# Altium footprint library Transformers.PcbLib: 2 footprints
Each footprint in its own frame and in the unit in brackets; x right, y up, seen from the top. Pads: shape width x height; smd on the part's side, far side on the other; paste and mask are expansions set on the pad; w line width, h text height; cw(c..) or ccw(c..) is an arc to the next point about the centre after c.
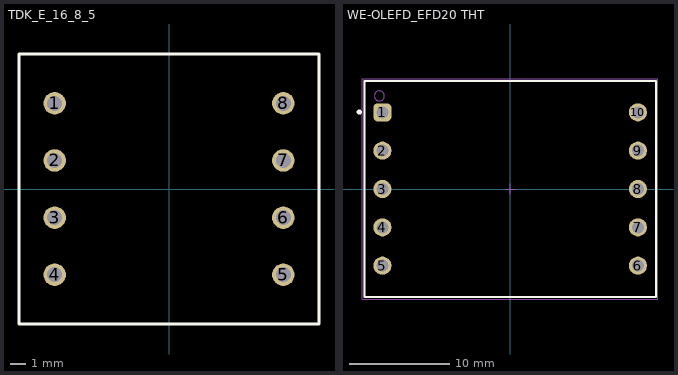
[diagram p0: the footprints below, top view; thin cyan lines are the x and y axes]

## TDK_E_16_8_5 [mm]
pads (8):
  round 1.5 hole 1: 1(-7.62,5.715) 2(-7.62,1.905) 3(-7.62,-1.913) 4(-7.62,-5.715) 5(7.62,-5.715) 6(7.62,-1.913) 7(7.62,1.905) 8(7.62,5.715)
Top Overlay:
  lines w0.2: -10,-9 -10,9 10,9 10,-9 -10,-9
3D body "TRAFO_E16.STEP": height 14.11, standoff -3.19, extent -9.946,-8.895 10.054,8.905

## WE-OLEFD_EFD20 THT [mm] "Offline Flyback Transformer, THT, body 29.00 x 21.50 mm"
height 12
pads (10):
  rrect50% 1.8x1.8 hole 1.2: 1(-12.7,7.62)
  round 1.8 hole 1.2: 2(-12.7,3.81) 3(-12.7,0) 4(-12.7,-3.81) 5(-12.7,-7.62) 6(12.7,-7.62) 7(12.7,-3.81) 8(12.7,0) 9(12.7,3.81) 10(12.7,7.62)
Top Overlay:
  circle w0.25: c-15,7.65 r0.125
  lines w0.2: -14.5,-10.75 14.5,-10.75 14.5,10.75 -14.5,10.75 -14.5,-10.75
Top Designator:
  text ".Designator" at -7.498,-0.5 h1.5
Top Component Outline:
  circle w0.1: c-13,9.25 r0.5
  lines w0.1: -14.5,-10.75 -14.5,10.75 14.5,10.75 14.5,-10.75 -14.5,-10.75
Top Courtyard:
  lines w0.05: -0.5,0 0.5,0 ; 0,-0.5 0,0.5 ; -14.7,-10.95 -14.7,10.95 14.7,10.95 14.7,-10.95 -14.7,-10.95
3D body "070-5981 (rev1).STEP": height 11.8, standoff -3.24, extent -14.29,-10.35 14.29,10.35